# EAGLE library part RCA-PJRAN2X1U01X (library MyComponents)
RCA Phono-Steckverbinder 2P RA PHONO JACK RED/WHT RoHS
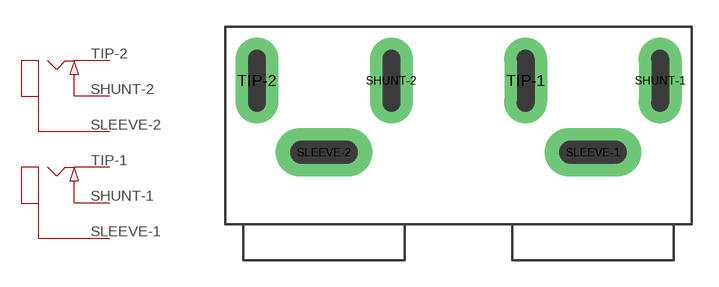
[diagram p19: symbol with the pads of RCA-JACK-PJRAN2X1U01X; footprint RCA-JACK-PJRAN2X1U01X]

Designator prefix SV

## RCA-PJRAN2X1U01X (MOUSER: 502-PJRAN2X1U01X)  [RCA-JACK-PJRAN2X1U01X]
SHUNT-1  SHUNT-1
SHUNT-2  SHUNT-2
SLEEVE-1  SLEEVE-1
SLEEVE-2  SLEEVE-2
TIP-1  TIP-1
TIP-2  TIP-2

## Footprint RCA-JACK-PJRAN2X1U01X (pad centres in mm)
drill 1 pad 2.4 long: SHUNT-1 11.25,8; SHUNT-2 -3.75,8; TIP-1 3.75,8; TIP-2 -11.25,8
drill 1.3 pad 2.7 long: SLEEVE-1 7.5,4; SLEEVE-2 -7.5,4